# EAGLE library part PTH12040W (library Jeff)
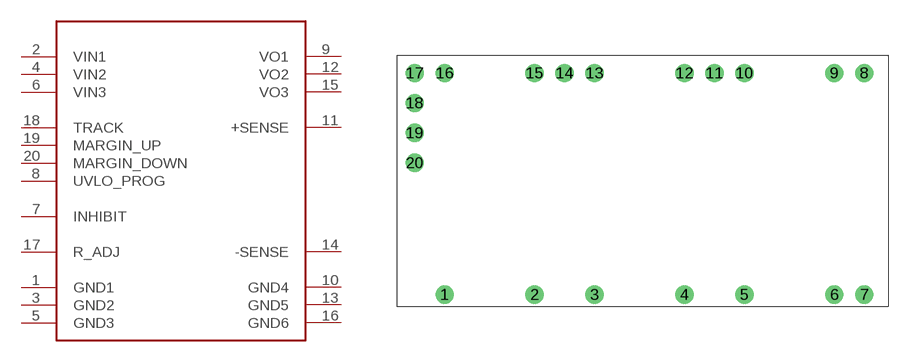
[diagram p1: symbol with the pads of PTHXX040W; footprint PTHXX040W]

Designator prefix -

## PTH12040W  [PTHXX040W]
1  GND1  pwr
2  VIN1  sup
3  GND2  pwr
4  VIN2  sup
5  GND3  pwr
6  VIN3  sup
7  INHIBIT  in
8  UVLO_PROG  in
9  VO1  pwr
10  GND4  pwr
11  +SENSE  in
12  VO2  pwr
13  GND5  pwr
14  -SENSE  in
15  VO3  pwr
16  GND6  pwr
17  R_ADJ  in
18  TRACK  in
19  MARGIN_UP  in
20  MARGIN_DOWN  in

## Footprint PTHXX040W (pad centres in mm)
drill 1.1 pad 1.93: 1 -12.7,-13.97; 2 -3.175,-13.97; 3 3.175,-13.97; 4 12.7,-13.97; 5 19.05,-13.97; 6 28.575,-13.97; 7 31.75,-13.97; 8 31.75,9.525; 9 28.575,9.525; 10 19.05,9.525; 11 15.875,9.525; 12 12.7,9.525; 13 3.175,9.525; 14 0,9.525; 15 -3.175,9.525; 16 -12.7,9.525; 17 -15.875,9.525; 18 -15.875,6.35; 19 -15.875,3.175; 20 -15.875,0